# Altium footprint library 16129011.PcbLib: 1 footprints
Each footprint in its own frame and in the unit in brackets; x right, y up, seen from the top. Pads: shape width x height; smd on the part's side, far side on the other; paste and mask are expansions set on the pad; w line width, h text height; cw(c..) or ccw(c..) is an arc to the next point about the centre after c.
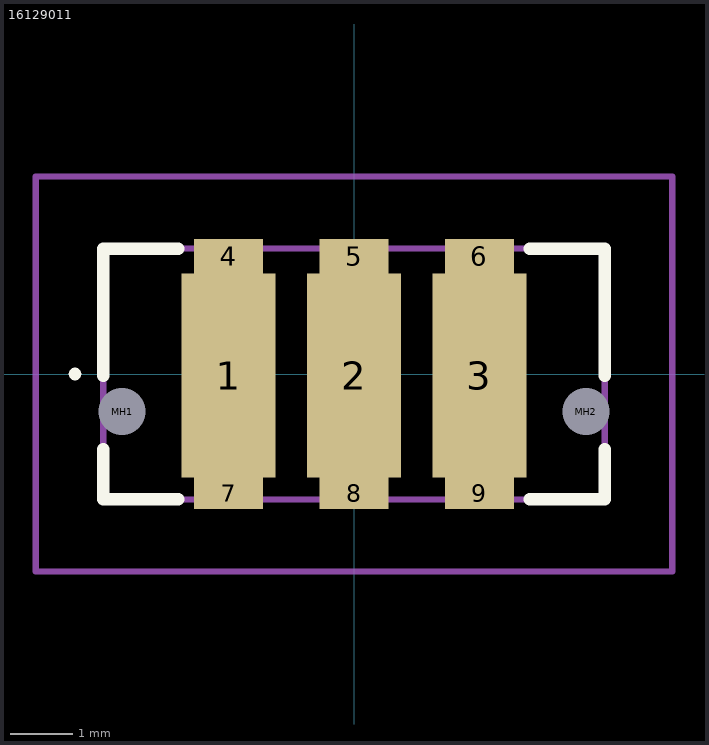
[diagram p0: the footprint, top view; thin cyan lines are the x and y axes]

## 16129011 [mm]
pads (11):
  rect 1.5x3.25 smd: 1(-2,-0.025) 2(0,-0.025) 3(2,-0.025)
  rect 1.1x0.55 smd: 4(-2,1.875) 5(0,1.875) 6(2,1.875)
  rect 1.1x0.5 smd: 7(-2,-1.9) 8(0,-1.9) 9(2,-1.9)
  round 0.375 hole 0.75 unplated: MH1(-3.7,-0.6) MH2(3.7,-0.6)
Top Overlay:
  lines w0.1: -4.5,0 cw(c-4.45,0) -4.4,0 ; -4.5,0 -4.5,0 ; -4.5,0 ccw(c-4.45,0) -4.4,0 ; -4.4,0 -4.4,0
  lines w0.2: -4,-1.2 -4,-2 -2.8,-2 ; -4,-0.025 -4,2 -2.8,2 ; 2.8,-2 4,-2 4,-1.2 ; 2.8,2 4,2 4,-0.025
Mechanical 15:
  lines w0.1: -4,-2 4,-2 4,2 -4,2 -4,-2
Mechanical 20:
  lines w0.1: -5.075,-3.15 5.075,-3.15 5.075,3.15 -5.075,3.15 -5.075,-3.15